# EAGLE library part SC4501 (library NewPart)
Boost Regulator 3.7V -> 5V
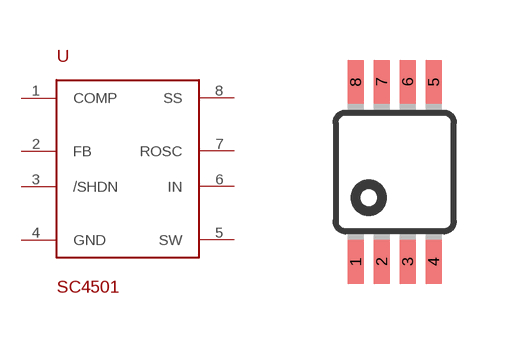
[diagram p0: symbol with the pads of MSOP8; footprint MSOP8]

Designator prefix U

## SC4501  [MSOP8]
1  COMP
2  FB
3  /SHDN
4  GND
5  SW
6  IN
7  ROSC
8  SS

## Footprint MSOP8 (pad centres in mm)
smd 0.4 x 1.1: 1 -0.975,-2.25; 2 -0.325,-2.25; 3 0.325,-2.25; 4 0.975,-2.25; 5 0.975,2.25; 6 0.325,2.25; 7 -0.325,2.25; 8 -0.975,2.25